# Altium footprint library Pin Header 1x2 10mm.PcbLib: 1 footprints
Each footprint in its own frame and in the unit in brackets; x right, y up, seen from the top. Pads: shape width x height; smd on the part's side, far side on the other; paste and mask are expansions set on the pad; w line width, h text height; cw(c..) or ccw(c..) is an arc to the next point about the centre after c.
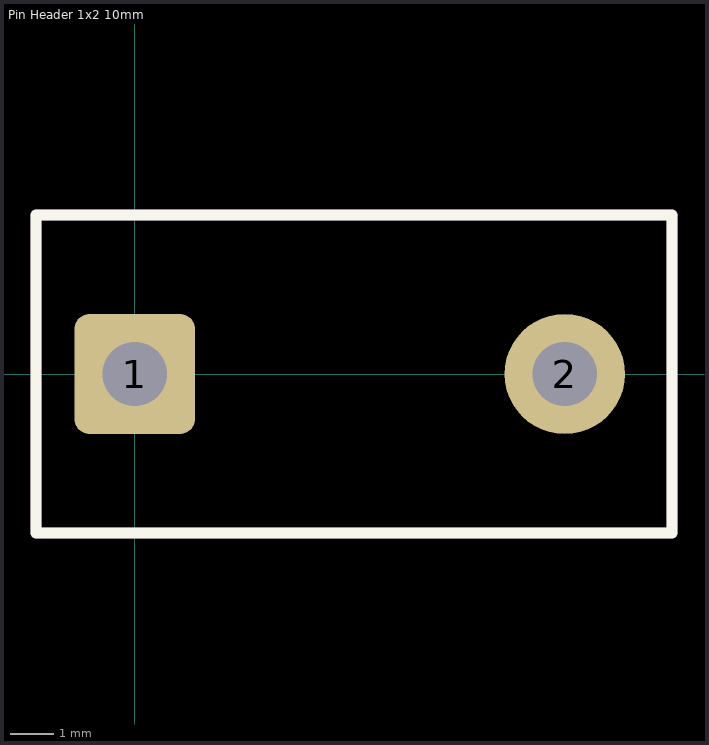
[diagram p0: the footprint, top view; thin cyan lines are the x and y axes]

## Pin Header 1x2 10mm [mm] "PinHeader 1x2 10mm"
height 9.5
pads (2):
  rrect25% 2.8x2.8 hole 1.5: 1(0,0)
  round 2.8 hole 1.5: 2(10,0)
Top Overlay:
  lines w0.254: -2.3,-3.7 12.5,-3.7 12.5,3.7 -2.3,3.7 -2.3,-3.7
Mechanical 3:
  lines w0.254: -2.3,-3.7 12.5,-3.7 12.5,3.7 -2.3,3.7 -2.3,-3.7
3D body "Terminal 10mm 2 pos.stp": height 11.5, standoff -3.6, extent -2.547,-3.563 12.453,3.937